# Altium schematic symbol library diode.SchLib: 25 symbols
Pins are listed as number, name and electrical type; pins without a type are passive.

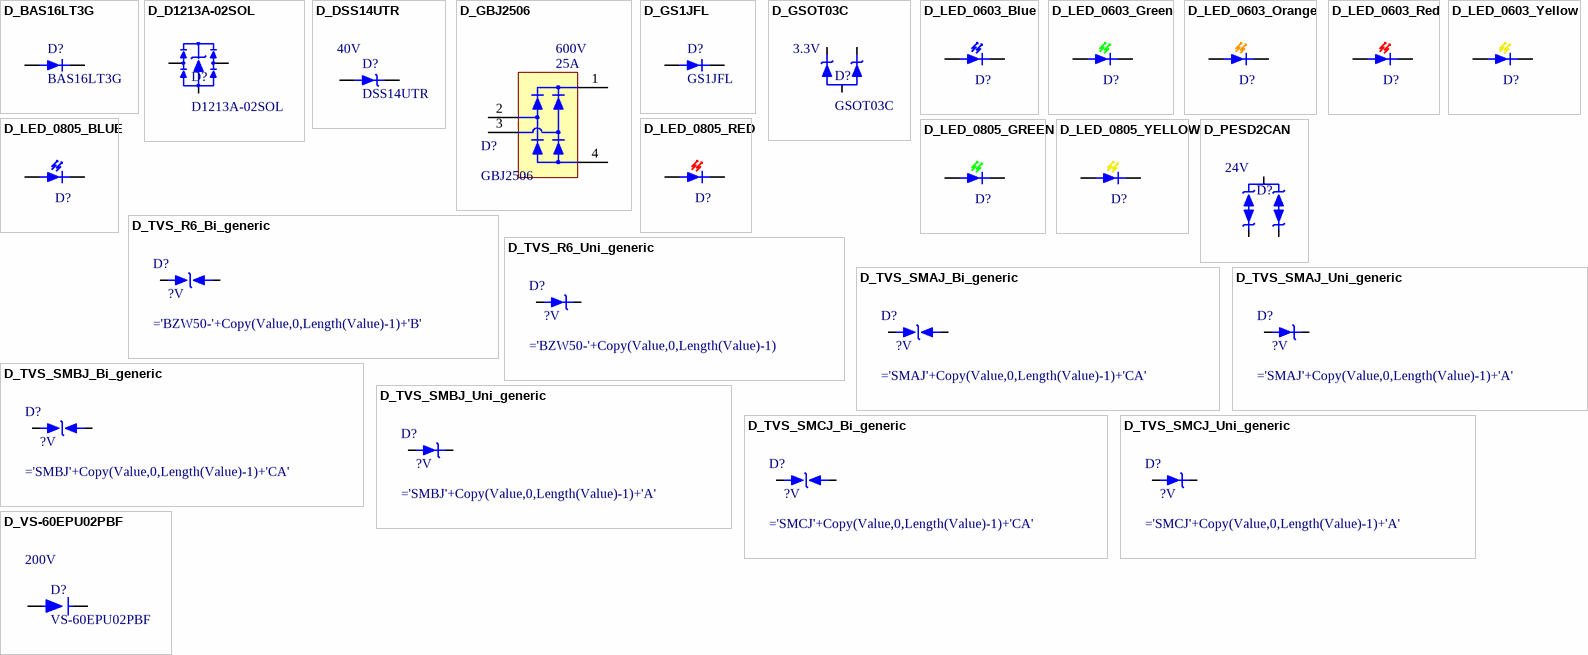
[diagram p0: symbols D_BAS16LT3G to D_VS-60EPU02PBF]

## D_BAS16LT3G
designator D?, comment BAS16LT3G
Diode Standard 100V 200mA (DC) Surface Mount SOT-23-3 (TO-236); Manufacturer: ON Semiconductor; Forward Voltage: 1.25V; Max Forward Surge Current (Ifsm): 500mA; Max Reverse Voltage (DC): 75V; Max Reverse Leakage Current: 1uA; Power Dissipation: 300mW; Reverse Recovery Time: 6ns; Supplier 1: Digi-Key; Supplier 2: Mouser; Supplier Part Number 1: BAS16LT3GOSCT-ND; Supplier Part Number 2: 863-BAS16LT3G; Forward Current: 200mA; Manufacturer Part Number: BAS16LT3G; Max Operating Temperature: 150°C; Output Current: 200mA
footprint SOT23-3 (SOT23, 3-Leads, Body 3.0x2.7mm (max), Pitch 0.95mm, IPC Medium Density)
pins: 1 ANODE, 3 CATHODE

## D_D1213A-02SOL
designator D?, comment D1213A-02SOL
10V (Typ) Clamp 1A (8/20µs) Ipp Tvs Diode Surface Mount SOT-23 (for USB); Manufacturer: Diodes Incorporated; Type: Steering (Rail to Rail); Voltage - Breakdown (Min): 6V; Capacitance @ Frequency: 0.85pF @ 1MHz; Voltage - Reverse Standoff (Typ): 3.3V; Manufacturer Part Number: D1213A-02SOL; Voltage - Clamping (Max) @ Ipp: 10V (Typ); Current - Peak Pulse (10/1000µs): 1A (8/20µs); Operating Temperature: -40°C ~ 85°C (TA)
footprint SOT23-3 (SOT23, 3-Leads, Body 3.0x2.7mm (max), Pitch 0.95mm, IPC Medium Density)
pins: 1, 2, 3

## D_DSS14UTR
designator D?, comment DSS14UTR  Reverse Voltage (DC): 40V
Diode Schottky 40V 1A Surface Mount SOD-123FL; Manufacturer: SMC; Voltage - Forward (Vf) (Max) @ If: 500mV @ 1A; Supplier 1: Digi-Key; Supplier Part Number 1: 1655-1927-1-ND; Manufacturer Part Number: DSS14UTR; Average Rectified Current: 1A
footprint SOD123F (SMD Diode SOD-123F (Flat))
pins: 1 ANODE, 2 CATHODE

## D_GBJ2506
designator D?, comment GBJ2506  Current: 25A  Voltage: 600V
Bridge Rectifier Single Phase Standard 600V Through Hole GBJ; Manufacturer: Diodes; Manufacturer Part Number: GBJ2506-F; Max Surge Current: 350A; Reverse Voltage (DC): 420V; Peak Reverse Current: 10uA; Forward Voltage: 1.05V; Capacitance: 85pF; Supplier 1: Digi-Key; Supplier Part Number 1: GBJ2506-FDI-ND; Min Operating Temperature: -65°C; Max Operating Temperature: 150°C
footprint D_GBJ (Footprint not found)
pins: 1 +, 2 ~1, 3 ~2, 4 -

## D_GS1JFL
designator D?, comment GS1JFL
DIODE GEN PURP 600V 1A DO221AC; Voltage - Forward (Vf) (Max) @ If: 1V @ 1A; Speed: Fast Recovery =< 500ns, > 200mA (Io); Current - Reverse Leakage @ Vr: 10µA @ 600V; Capacitance @ Vr, F: 15pF @ 4V, 1MHz; Supplier 1: Mouser; Supplier Part Number 1: 833-GS1JFL-TP; Voltage - DC Reverse (Vr) (Max): 600V; Current - Average Rectified (Io): 1A; Operating Temperature - Junction: -55°C ~ 150°C
footprint SMA (SMA Diode)
pins: 1 ANODE, 2 CATHODE

## D_GSOT03C
designator D?, comment GSOT03C  Reverse Standoff Voltage: 3.3V
TVS DIODE 4V 14.3V SOT23-3; Manufacturer Part Number: GSOT03C-HG3-08; Manufacturer: Vishay; Peak Pulse Current: 30A; Capacitance: 600pF; Clamping Voltage: 12.3V; Element Configuration: Common Anode; Breakdown Voltage: 4.6V; Peak Pulse Power: 369W; Supplier 1: Digi-Key; Supplier Part Number 1: GSOT03C-HG3-08GICT-ND; Min Operating Temperature: -55°C; Max Operating Temperature: 150°C; Min Breakdown Voltage: 4V; Composition: Zener
footprint SOT23-3 (SOT23, 3-Leads, Body 3.0x2.7mm (max), Pitch 0.95mm, IPC Medium Density)
pins: 1, 2, 3

## D_LED_0603_Blue
designator D?, comment LTST-C194TBKT  (value not drawn)
Blue 468nm LED Indication - Discrete 3.3V 0603 (1608 Metric); Manufacturer: Vishay Lite-On; Lens Transparency: Clear; Lens Colour: Colorless; Reverse Voltage: 5V; Forward Current: 5mA; Power Dissipation: 76mW; Luminous Intensity: 180mcd; Forward Voltage: 3.8V; Test Current: 20mA; Viewing Angle: 130°; Value: Blue; Supplier 1: Digi-Key; Supplier Part Number 1: 160-1837-1-ND; Manufacturer Part Number: LTST-C194TBKT; Min Operating Temperature: -20°C; Max Operating Temperature: 80°C; Dominant Wavelength: 468nm
footprint 0603_LED_Blue (Footprint not found)
pins: 1 Anode, 2 Cathode

## D_LED_0603_Green
designator D?, comment LTST-C194KGKT  (value not drawn)
Green 572nm LED Indication - Discrete 2.1V 0603 (1608 Metric); Manufacturer: Vishay Lite-On; Lens Transparency: Clear; Lens Colour: Colorless; Reverse Voltage: 5V; Forward Current: 30mA; Power Dissipation: 75mW; Luminous Intensity: 112mcd; Forward Voltage: 2.4V; Test Current: 20mA; Viewing Angle: 130°; Dominant Wavelength: 576.5nm; Value: Green; Manufacturer Part Number: LTST-C194KGKT; Min Operating Temperature: -30°C; Max Operating Temperature: 85°C; Supplier 1: Digi-Key; Supplier Part Number 1: 160-1834-1-ND
footprint 0603_LED_Green (Footprint not found)
pins: 1 Anode, 2 Cathode

## D_LED_0603_Orange
designator D?, comment LTST-C194KFKT  (value not drawn)
Orange 605nm LED Indication - Discrete 2V 0603 (1608 Metric); Manufacturer: Vishay Lite-On; Lens Transparency: Clear; Lens Colour: Colorless; Reverse Voltage: 5V; Forward Current: 5mA; Power Dissipation: 75mW; Luminous Intensity: 162.5mcd; Test Current: 20mA; Viewing Angle: 130°; Value: Orange; Manufacturer Part Number: LTST-C194KFKT; Min Operating Temperature: -30°C; Forward Voltage: 2V; Max Operating Temperature: 85°C; Dominant Wavelength: 605nm; Supplier 1: Digi-Key; Supplier Part Number 1: 160-1833-1-ND
footprint 0603_LED_Orange (Footprint not found)
pins: 1 Anode, 2 Cathode

## D_LED_0603_Red
designator D?, comment LTST-C194KRKT  (value not drawn)
Red 631nm LED Indication - Discrete 2V 0603 (1608 Metric); Manufacturer: Vishay Lite-On; Lens Transparency: Clear; Lens Colour: Colorless; Reverse Voltage: 5V; Forward Current: 5mA; Power Dissipation: 75mW; Luminous Intensity: 95.6mcd; Test Current: 20mA; Viewing Angle: 130°; Value: Red; Manufacturer Part Number: LTST-C194KRKT; Min Operating Temperature: -30°C; Forward Voltage: 2V; Max Operating Temperature: 85°C; Dominant Wavelength: 631nm; Supplier 1: Digi-Key; Supplier Part Number 1: 160-1835-1-ND
footprint 0603_LED_Red (Footprint not found)
pins: 1 Anode, 2 Cathode

## D_LED_0603_Yellow
designator D?, comment LTST-C194KSKT  (value not drawn)
Yellow 592nm LED Indication - Discrete 2V 0603 (1608 Metric); Manufacturer: Vishay Lite-On; Lens Transparency: Clear; Lens Colour: Colorless; Reverse Voltage: 5V; Forward Current: 5mA; Power Dissipation: 75mW; Luminous Intensity: 104mcd; Test Current: 20mA; Viewing Angle: 130°; Value: Yellow; Manufacturer Part Number: LTST-C194KSKT; Min Operating Temperature: -30°C; Forward Voltage: 2V; Max Operating Temperature: 85°C; Dominant Wavelength: 592nm; Supplier 1: Digi-Key; Supplier Part Number 1: 160-1836-1-ND
footprint 0603_LED_Yellow (Footprint not found)
pins: 1 Anode, 2 Cathode

## D_LED_0805_BLUE
designator D?, comment APT2012QBC/D  (value not drawn)
LED 2X1.2MM 470NM BL WTR CLR SMD; Manufacturer: Kingbright; SVP Creator: Jonathan Nutzmann; Current: 20mA; Forward Voltage: 3.3; Value: BLUE; Package: 0805; Supplier: Digikey; Manufacturer PN: APT2012QBC/D; Supplier PN: 754-1437-1-ND; Supplier 1: Digi-Key; Supplier Part Number 1: 754-1437-1-ND
footprint 0805_LED_Blue (Chip Capacitor; Body 2.0 x 1.2 mm (LxW typ))
pins: 1 Anode, 2 Cathode

## D_LED_0805_GREEN
designator D?, comment LG R971-KN-1-0-20-R18  (value not drawn)
LED CHIPLED 570NM GREEN 0805 SMD; Manufacturer: Osram Opto Semiconductors Inc; SVP Creator: Nate Bolyard; Current: 20mA; Forward Voltage: 2.2V; Package: 0805; Supplier: Digikey; Manufacturer PN: LG R971-KN-1-0-20-R18; Value: GREEN; Supplier PN: 475-1410-1-ND; Supplier 1: Digi-Key; Supplier Part Number 1: 475-1410-1-ND
footprint 0805_LED_Green (Chip Capacitor; Body 2.0 x 1.2 mm (LxW typ))
pins: 1 Anode, 2 Cathode

## D_LED_0805_RED
designator D?, comment LH R974-LP-1  (value not drawn)
LED CHIPLED 645NM RED DIFF 0805; Manufacturer: OSRAM Opto Semiconductors Inc; SVP Creator: Jonathan Nutzmann; Current: 20mA; Forward Voltage: 1.8; Package: 0805; Manufacturer PN: LH R974-LP-1; Value: RED; Supplier 1: Digi-Key; Supplier Part Number 1: 475-1415-1-ND
footprint 0805_LED_Red (Chip Capacitor; Body 2.0 x 1.2 mm (LxW typ))
pins: 1 Anode, 2 Cathode

## D_LED_0805_YELLOW
designator D?, comment HSMA-C170  (value not drawn)
LED 595NM AMBER DIFF SMD 0805; Manufacturer: Avago Technologies US Inc.; SVP Creator: Jonathan Nutzmann; Current: 20mA; Forward Voltage: 1.9; Package: 0805; Supplier: Digikey; Manufacturer PN: HSMA-C170; Value: Amber; Supplier PN: 516-1431-1-ND; Supplier 1: Digi-Key; Supplier Part Number 1: 516-1431-1-ND
footprint 0805_LED_Yellow (Chip Capacitor; Body 2.0 x 1.2 mm (LxW typ))
pins: 1 Anode, 2 Cathode

## D_PESD2CAN
designator D?, comment Reverse Standoff Voltage: 24V  (hidden comment: PESD2CAN)
TVS DIODE 24V 41V SOT23; Manufacturer Part Number: PESD2CAN,215; Manufacturer: NXP Semiconductors; Polarity: Bidirectional; Capacitance: 17pF; Leakage Current: 50nA; Max Power Dissipation: 230W; Max Breakdown Voltage: 30.3V; Max Reverse Leakage Current: 10nA; Min Breakdown Voltage: 26.2V; Element Configuration: Dual; Max Surge Current: 5A; Breakdown Voltage: 28V; Test Current: 1mA; Supplier 1: Digi-Key; Supplier Part Number 1: 1727-3891-6-ND; Clamping Voltage: 41V; Composition: Zener; Direction: Bidirectional; Max Operating Temperature: 150°C; Min Operating Temperature: -65°C; Reverse Breakdown Voltage: 26.2V
footprint SOT23-3 (SOT23, 3-Leads, Body 3.0x2.7mm (max), Pitch 0.95mm, IPC Medium Density)
pins: 1, 2, 3

## D_TVS_R6_Bi_generic
designator D?, comment value ?V  (hidden comment: TVS Diode)
R6 Axial Thru Hole Bidirectional TVS Diode; Manufacturer: STMicroelectronics; Power - Peak Pulse: 5000W; Type: Zener; Power - Dissipation: 6.5W; Operating Temperature: -65°C ~ 175°C; HelpURL: https://www.st.com/content/ccc/resource/technical/document/datasheet/group0/43/a0/00/2c/95/0b/42/95/CD00000695/files/CD00000695.pdf/jcr:content/translations/en.CD00000695.pdf; Manufacturer PN: ='BZW50-'+Copy(Value,0,Length(Value)-1)+'B'
footprint R6_Axial_Bidirectional (R6 Axial Diode (Bidirectional))
pins: 1, 2

## D_TVS_R6_Uni_generic
designator D?, comment value ?V  (hidden comment: TVS Diode)
R6 Axial Thru Hole Unidirectional TVS Diode; Manufacturer: STMicroelectronics; Power - Peak Pulse: 5000W; Type: Zener; Power - Dissipation: 6.5W; Operating Temperature: -65°C ~ 175°C; HelpURL: https://www.st.com/content/ccc/resource/technical/document/datasheet/group0/43/a0/00/2c/95/0b/42/95/CD00000695/files/CD00000695.pdf/jcr:content/translations/en.CD00000695.pdf; Manufacturer PN: ='BZW50-'+Copy(Value,0,Length(Value)-1)
footprint R6_Axial (R6 Axial Diode)
pins: 1 Anode, 2 Cathode

## D_TVS_SMAJ_Bi_generic
designator D?, comment value ?V  (hidden comment: TVS Diode)
SMA Bidirectional TVS Diode; Manufacturer: Vishay; Power - Peak Pulse: 400W; Type: Zener; Operating Temperature: -55°C ~ 150°C; HelpURL: http://www.vishay.com/docs/88392/smbj.pdf; Manufacturer PN: ='SMAJ'+Copy(Value,0,Length(Value)-1)+'CA'
footprint SMA_Bidirectional (SMA Diode (Bidirectional))
pins: 1, 2

## D_TVS_SMAJ_Uni_generic
designator D?, comment value ?V  (hidden comment: TVS Diode)
SMA Unidirectional TVS Diode; Manufacturer: Vishay; Power - Peak Pulse: 400W; Type: Zener; Operating Temperature: -55°C ~ 150°C; HelpURL: http://www.vishay.com/docs/88392/smbj.pdf; Manufacturer PN: ='SMAJ'+Copy(Value,0,Length(Value)-1)+'A'
footprint SMA (SMA Diode)
pins: 1 Anode, 2 Cathode

## D_TVS_SMBJ_Bi_generic
designator D?, comment value ?V  (hidden comment: TVS Diode)
SMB Bidirectional TVS Diode; Manufacturer: Vishay; Power - Peak Pulse: 600W; Type: Zener; Operating Temperature: -55°C ~ 150°C; HelpURL: http://www.vishay.com/docs/88392/smbj.pdf; Manufacturer PN: ='SMBJ'+Copy(Value,0,Length(Value)-1)+'CA'
footprint SMB_Bidirectional (SMB Diode (Bidirectional))
pins: 1, 2

## D_TVS_SMBJ_Uni_generic
designator D?, comment value ?V  (hidden comment: TVS Diode)
SMB Unidirectional TVS Diode; Manufacturer: Vishay; Power - Peak Pulse: 600W; Type: Zener; Operating Temperature: -55°C ~ 150°C; HelpURL: http://www.vishay.com/docs/88392/smbj.pdf; Manufacturer PN: ='SMBJ'+Copy(Value,0,Length(Value)-1)+'A'
footprint SMB (Footprint not found)
pins: 1 Anode, 2 Cathode

## D_TVS_SMCJ_Bi_generic
designator D?, comment value ?V  (hidden comment: TVS Diode)
SMC Bidirectional TVS Diode; Manufacturer: Vishay; Power - Peak Pulse: 1500W; Type: Zener; Power - Dissipation: 6.5W; Operating Temperature: -55°C ~ 150°C; HelpURL: http://www.vishay.com/docs/88394/smcj.pdf; Manufacturer PN: ='SMCJ'+Copy(Value,0,Length(Value)-1)+'CA'
footprint SMC_Bidirectional (SMC Diode (Bidirectional))
pins: 1, 2

## D_TVS_SMCJ_Uni_generic
designator D?, comment value ?V  (hidden comment: TVS Diode)
SMC Unidirectional TVS Diode; Manufacturer: Vishay; Power - Peak Pulse: 1500W; Type: Zener; Power - Dissipation: 6.5W; Operating Temperature: -55°C ~ 150°C; HelpURL: http://www.vishay.com/docs/88394/smcj.pdf; Manufacturer PN: ='SMCJ'+Copy(Value,0,Length(Value)-1)+'A'
footprint SMC
pins: 1 Anode, 2 Cathode

## D_VS-60EPU02PBF
designator D?, comment VS-60EPU02PBF  Reverse Voltage: 200V
DIODE GEN PURP 200V 60A TO247AC; Manufacturer: Vishay; Forward Voltage: 1.08V; Max Forward Surge Current (Ifsm): 800A; Natural Thermal Resistance: 0.2°C/W; Reverse Recovery Time: 35ns; Peak Reverse Current: 50uA; Supplier 1: Digi-Key; Average Rectified Current: 60A; Max Repetitive Reverse Voltage (Vrrm): 200V; Min Operating Temperature: -55°C; Max Operating Temperature: 175°C; Forward Current: 60A; Supplier Part Number 1: 60EPU02PBF-ND; Manufacturer Part Number: VS-60EPU02PBF
footprint TO247-2 (3 lead TO-247 package, vertical)
pins: 1 CATHODE, 3 ANODE